# Altium schematic symbol library LMR33620.SchLib: 1 symbol
Pins are listed as number, name and electrical type; pins without a type are passive.

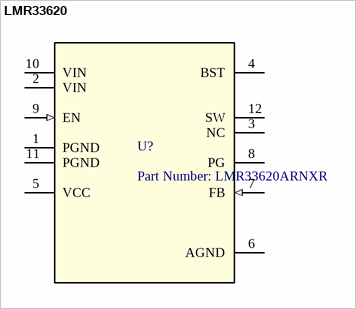
[diagram p0: symbol LMR33620]

## LMR33620
designator U?, comment Part Number: LMR33620ARNXR
SIMPLE SWITCHER® 3.8V to 36V, 2A Synchronous Buck Converter With Ultra-Low EMI; Manufacturer: Texas Instruments; PartNumber: LMR33620ARNXR; RefDes: RefDes; TYPE: TYPE; Value: Value
footprint RNX12 (RNX0012B)
pins: 1 PGND (power), 2 VIN (power), 3 NC, 4 BST, 5 VCC (power), 6 AGND (power), 7 FB (in), 8 PG (oc), 9 EN (in), 10 VIN (power), 11 PGND (power), 12 SW (power)